# Altium footprint library WL-TIRW.PcbLib: 2 footprints
Each footprint in its own frame and in the unit in brackets; x right, y up, seen from the top. Pads: shape width x height; smd on the part's side, far side on the other; paste and mask are expansions set on the pad; w line width, h text height; cw(c..) or ccw(c..) is an arc to the next point about the centre after c.
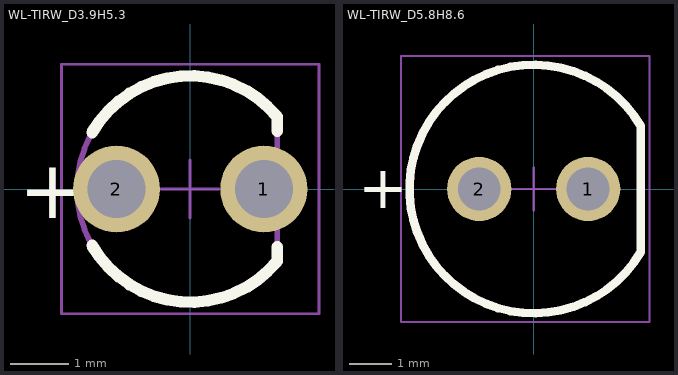
[diagram p0: the footprints below, top view; thin cyan lines are the x and y axes]

## WL-TIRW_D3.9H5.3 [mm] "THT Infrared Round Waterclear, body diameter 3.9mm"
height 5.3
pads (2):
  round 1.5 hole 1: 1(1.27,0) 2(-1.27,0)
Top Overlay:
  lines w0.2: -1.69,-0.973 ccw(c0,0) 1.5,-1.245 1.5,-1 ; -1.69,0.973 cw(c0,0) 1.5,1.245 1.5,1
  text "+" at -2.95,-0.5 h1.02
Top Designator:
  text ".Designator" at -3.999,-0.267 h0.8
Top Component Outline:
  lines w0.1: 1.5,-1.245 cw(c0,0) 1.5,1.245 ; 1.5,-1.245 1.5,1.245
Top 3D Body:
  lines w0.1: 1.5,-1.245 cw(c0,0) 1.5,1.245 ; 1.5,-1.245 1.5,1.245
Top Courtyard:
  lines w0.05: -0.5,0 0.5,0 ; 0,-0.5 0,0.5 ; -2.22,-2.15 -2.22,2.15 2.22,2.15 2.22,-2.15 -2.22,-2.15
3D body "154003xxx.stp": height 5.33, standoff -26.37, extent -1.95,-1.949 1.62,1.949

## WL-TIRW_D5.8H8.6 [mm] "THT Infrared Round Waterclear, body diameter 5.8mm"
height 8.6
pads (2):
  round 1.5 hole 1: 1(1.27,0) 2(-1.27,0)
Top Overlay:
  lines w0.2: 2.5,-1.47 cw(c0,0) 2.5,1.47 ; 2.5,-1.47 2.5,1.47
  text "+" at -4.1,-0.45 h1.02
Top Designator:
  text ".Designator" at -5.998,-0.4 h1.2
Top Component Outline:
  lines w0.1: 2.5,-1.47 cw(c0,0) 2.5,1.47 ; 2.5,-1.47 2.5,1.47
Top 3D Body:
  lines w0.1: 2.5,-1.47 cw(c0,0) 2.5,1.47 ; 2.5,-1.47 2.5,1.47
Top Courtyard:
  lines w0.05: -0.5,0 0.5,0 ; 0,-0.5 0,0.5 ; -3.1,-3.1 2.7,-3.1 2.7,3.1 -3.1,3.1 -3.1,-3.1
3D body "154005xxx.stp": height 9.1, standoff -25.9, extent -2.9,-2.899 2.5,2.9